# Altium footprint library TerminalBlock_RND.PcbLib: 132 footprints (part 3 of 9)
Each footprint in its own frame and in the unit in brackets; x right, y up, seen from the top. Pads: shape width x height; smd on the part's side, far side on the other; paste and mask are expansions set on the pad; w line width, h text height; cw(c..) or ccw(c..) is an arc to the next point about the centre after c.
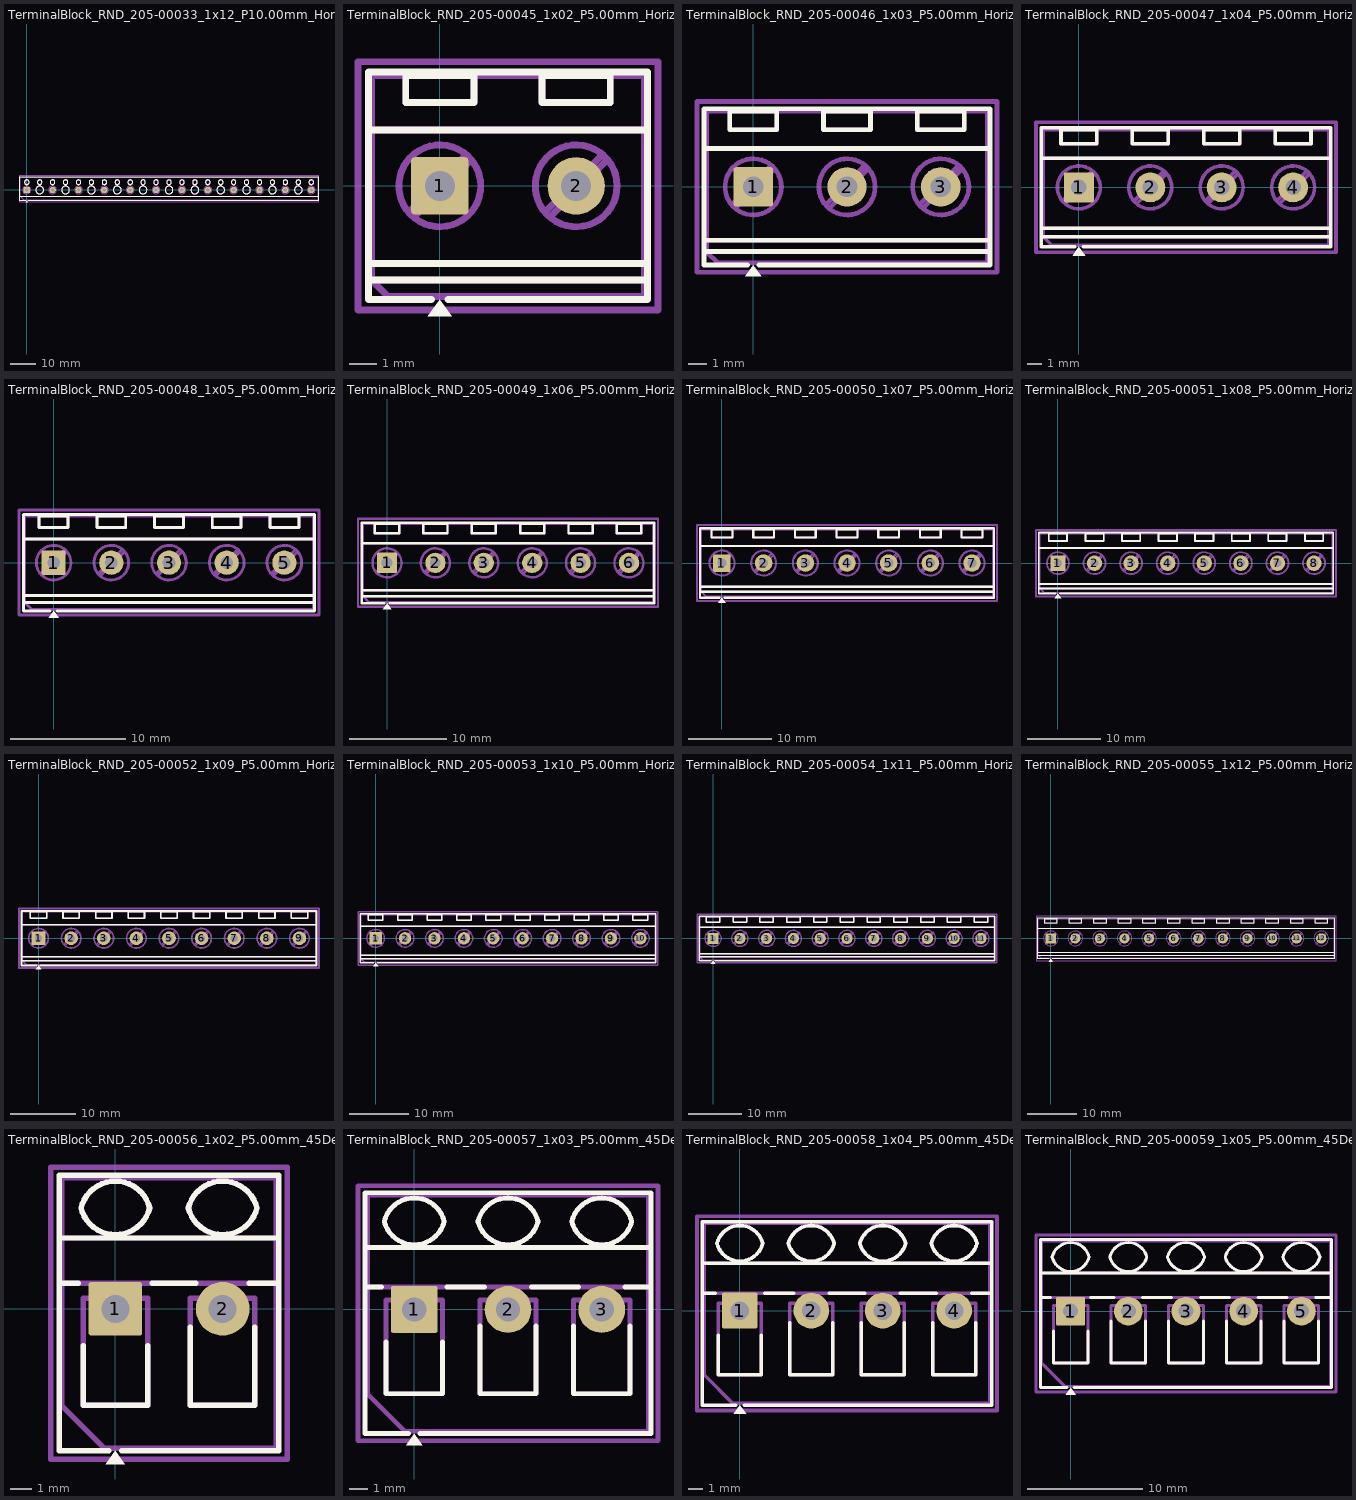
[diagram p2: the footprints below, top view; thin cyan lines are the x and y axes]

## TerminalBlock_RND_205-00033_1x12_P10.00mm_Horizontal [mm]
pads (12):
  rrect10% 2.5x2.5 hole 1.3: 1(0,0)
  round 2.5 hole 1.3: 2(10,0) 3(20,0) 4(30,0) 5(40,0) 6(50,0) 7(60,0) 8(70,0) 9(80,0) 10(90,0) 11(100,0) 12(110,0)
F.SilkS:
  circle w0.254: c0,3 r0.9
  circle w0.254: c5,3 r0.9
  circle w0.254: c5,0 r1.5
  circle w0.254: c10,3 r0.9
  circle w0.254: c15,3 r0.9
  circle w0.254: c15,0 r1.5
  circle w0.254: c20,3 r0.9
  circle w0.254: c25,3 r0.9
  circle w0.254: c25,0 r1.5
  circle w0.254: c30,3 r0.9
  circle w0.254: c35,3 r0.9
  circle w0.254: c35,0 r1.5
  circle w0.254: c40,3 r0.9
  circle w0.254: c45,3 r0.9
  circle w0.254: c45,0 r1.5
  circle w0.254: c50,3 r0.9
  circle w0.254: c55,3 r0.9
  circle w0.254: c55,0 r1.5
  circle w0.254: c60,3 r0.9
  circle w0.254: c65,3 r0.9
  circle w0.254: c65,0 r1.5
  circle w0.254: c70,3 r0.9
  circle w0.254: c75,3 r0.9
  circle w0.254: c75,0 r1.5
  circle w0.254: c80,3 r0.9
  circle w0.254: c85,3 r0.9
  circle w0.254: c85,0 r1.5
  circle w0.254: c90,3 r0.9
  circle w0.254: c95,3 r0.9
  circle w0.254: c95,0 r1.5
  circle w0.254: c100,3 r0.9
  circle w0.254: c105,3 r0.9
  circle w0.254: c105,0 r1.5
  circle w0.254: c110,3 r0.9
  region: 0.44,-4.73 -0.44,-4.73 0,-4.12
  lines w0.254: -2.62,-2.5 112.62,-2.5 ; -0.3,-4.12 -2.62,-4.12 -2.62,5.12 112.62,5.12 112.62,-4.12 0.3,-4.12
F.Fab:
  circle w0.254: c0,3 r0.9
  circle w0.254: c0,0 r1.5
  circle w0.254: c5,3 r0.9
  circle w0.254: c5,0 r1.5
  circle w0.254: c10,3 r0.9
  circle w0.254: c10,0 r1.5
  circle w0.254: c15,3 r0.9
  circle w0.254: c15,0 r1.5
  circle w0.254: c20,3 r0.9
  circle w0.254: c20,0 r1.5
  circle w0.254: c25,3 r0.9
  circle w0.254: c25,0 r1.5
  circle w0.254: c30,3 r0.9
  circle w0.254: c30,0 r1.5
  circle w0.254: c35,3 r0.9
  circle w0.254: c35,0 r1.5
  circle w0.254: c40,3 r0.9
  circle w0.254: c40,0 r1.5
  circle w0.254: c45,3 r0.9
  circle w0.254: c45,0 r1.5
  circle w0.254: c50,3 r0.9
  circle w0.254: c50,0 r1.5
  circle w0.254: c55,3 r0.9
  circle w0.254: c55,0 r1.5
  circle w0.254: c60,3 r0.9
  circle w0.254: c60,0 r1.5
  circle w0.254: c65,3 r0.9
  circle w0.254: c65,0 r1.5
  circle w0.254: c70,3 r0.9
  circle w0.254: c70,0 r1.5
  circle w0.254: c75,3 r0.9
  circle w0.254: c75,0 r1.5
  circle w0.254: c80,3 r0.9
  circle w0.254: c80,0 r1.5
  circle w0.254: c85,3 r0.9
  circle w0.254: c85,0 r1.5
  circle w0.254: c90,3 r0.9
  circle w0.254: c90,0 r1.5
  circle w0.254: c95,3 r0.9
  circle w0.254: c95,0 r1.5
  circle w0.254: c100,3 r0.9
  circle w0.254: c100,0 r1.5
  circle w0.254: c105,3 r0.9
  circle w0.254: c105,0 r1.5
  circle w0.254: c110,3 r0.9
  circle w0.254: c110,0 r1.5
  lines w0.254: -1.138,-0.955 0.955,1.138 ; -0.955,-1.138 1.138,0.955 ; 8.862,-0.955 10.955,1.138 ; 9.045,-1.138 11.138,0.955 ; 18.862,-0.955 20.955,1.138 ; 19.045,-1.138 21.138,0.955 ; 28.862,-0.955 30.955,1.138 ; 29.045,-1.138 31.138,0.955 ; 38.862,-0.955 40.955,1.138 ; 39.045,-1.138 41.138,0.955 ; 48.862,-0.955 50.955,1.138 ; 49.045,-1.138 51.138,0.955 ; 58.862,-0.955 60.955,1.138 ; 59.045,-1.138 61.138,0.955 ; 68.862,-0.955 70.955,1.138 ; 69.045,-1.138 71.138,0.955 ; 78.862,-0.955 80.955,1.138 ; 79.045,-1.138 81.138,0.955 ; 88.862,-0.955 90.955,1.138 ; 89.045,-1.138 91.138,0.955 ; 98.862,-0.955 100.955,1.138 ; 99.045,-1.138 101.138,0.955 ; 108.862,-0.955 110.955,1.138 ; 109.045,-1.138 111.138,0.955 ; 112.5,-2.5 -2.5,-2.5 ; -2.5,-2.5 -2.5,5 112.5,5 112.5,-4 -1,-4 -2.5,-2.5
  text "'.Designator'" at 50.953,-4.14 h1
F.CrtYd:
  lines w0.254: -3,-4.5 -3,5.5 113,5.5 113,-4.5 -3,-4.5

## TerminalBlock_RND_205-00045_1x02_P5.00mm_Horizontal [mm]
pads (2):
  rrect12% 2.1x2.1 hole 1.1: 1(0,0)
  round 2.1 hole 1.1: 2(5,0)
F.SilkS:
  region: 0.44,-4.78 -0.44,-4.78 0,-4.17
  lines w0.254: -2.62,-3.45 7.62,-3.45 ; -2.62,-2.85 7.62,-2.85 ; -2.62,2.05 7.62,2.05 ; -0.3,-4.17 -2.62,-4.17 -2.62,4.17 7.62,4.17 7.62,-4.17 0.3,-4.17 ; -1.25,3.05 -1.25,4.05 1.25,4.05 1.25,3.05 -1.25,3.05 ; 3.75,3.05 3.75,4.05 6.25,4.05 6.25,3.05 3.75,3.05
F.Fab:
  circle w0.254: c0,0 r1.5
  circle w0.254: c5,0 r1.5
  lines w0.254: -2.5,-2.85 7.5,-2.85 ; -2.5,2.05 7.5,2.05 ; -1.138,-0.955 0.955,1.138 ; -0.955,-1.138 1.138,0.955 ; 3.862,-0.955 5.955,1.138 ; 4.045,-1.138 6.138,0.955 ; 7.5,-3.45 -2.5,-3.45 ; -2.5,-3.45 -2.5,4.05 7.5,4.05 7.5,-4.05 -1.9,-4.05 -2.5,-3.45 ; -1.25,3.05 -1.25,4.05 1.25,4.05 1.25,3.05 -1.25,3.05 ; 3.75,3.05 3.75,4.05 6.25,4.05 6.25,3.05 3.75,3.05
  text "'.Designator'" at -1.547,4.33 h1
F.CrtYd:
  lines w0.254: -3,-4.55 -3,4.55 8,4.55 8,-4.55 -3,-4.55

## TerminalBlock_RND_205-00046_1x03_P5.00mm_Horizontal [mm]
pads (3):
  rrect12% 2.1x2.1 hole 1.1: 1(0,0)
  round 2.1 hole 1.1: 2(5,0) 3(10,0)
F.SilkS:
  region: 0.44,-4.78 -0.44,-4.78 0,-4.17
  lines w0.254: -2.62,-3.45 12.62,-3.45 ; -2.62,-2.85 12.62,-2.85 ; -2.62,2.05 12.62,2.05 ; -0.3,-4.17 -2.62,-4.17 -2.62,4.17 12.62,4.17 12.62,-4.17 0.3,-4.17 ; -1.25,3.05 -1.25,4.05 1.25,4.05 1.25,3.05 -1.25,3.05 ; 3.75,3.05 3.75,4.05 6.25,4.05 6.25,3.05 3.75,3.05 ; 8.75,3.05 8.75,4.05 11.25,4.05 11.25,3.05 8.75,3.05
F.Fab:
  circle w0.254: c0,0 r1.5
  circle w0.254: c5,0 r1.5
  circle w0.254: c10,0 r1.5
  lines w0.254: -2.5,-2.85 12.5,-2.85 ; -2.5,2.05 12.5,2.05 ; -1.138,-0.955 0.955,1.138 ; -0.955,-1.138 1.138,0.955 ; 3.862,-0.955 5.955,1.138 ; 4.045,-1.138 6.138,0.955 ; 8.862,-0.955 10.955,1.138 ; 9.045,-1.138 11.138,0.955 ; 12.5,-3.45 -2.5,-3.45 ; -2.5,-3.45 -2.5,4.05 12.5,4.05 12.5,-4.05 -1.9,-4.05 -2.5,-3.45 ; -1.25,3.05 -1.25,4.05 1.25,4.05 1.25,3.05 -1.25,3.05 ; 3.75,3.05 3.75,4.05 6.25,4.05 6.25,3.05 3.75,3.05 ; 8.75,3.05 8.75,4.05 11.25,4.05 11.25,3.05 8.75,3.05
  text "'.Designator'" at 0.953,4.33 h1
F.CrtYd:
  lines w0.254: -3,-4.55 -3,4.55 13,4.55 13,-4.55 -3,-4.55

## TerminalBlock_RND_205-00047_1x04_P5.00mm_Horizontal [mm]
pads (4):
  rrect12% 2.1x2.1 hole 1.1: 1(0,0)
  round 2.1 hole 1.1: 2(5,0) 3(10,0) 4(15,0)
F.SilkS:
  region: 0.44,-4.78 -0.44,-4.78 0,-4.17
  lines w0.254: -2.62,-3.45 17.62,-3.45 ; -2.62,-2.85 17.62,-2.85 ; -2.62,2.05 17.62,2.05 ; -0.3,-4.17 -2.62,-4.17 -2.62,4.17 17.62,4.17 17.62,-4.17 0.3,-4.17 ; -1.25,3.05 -1.25,4.05 1.25,4.05 1.25,3.05 -1.25,3.05 ; 3.75,3.05 3.75,4.05 6.25,4.05 6.25,3.05 3.75,3.05 ; 8.75,3.05 8.75,4.05 11.25,4.05 11.25,3.05 8.75,3.05 ; 13.75,3.05 13.75,4.05 16.25,4.05 16.25,3.05 13.75,3.05
F.Fab:
  circle w0.254: c0,0 r1.5
  circle w0.254: c5,0 r1.5
  circle w0.254: c10,0 r1.5
  circle w0.254: c15,0 r1.5
  lines w0.254: -2.5,-2.85 17.5,-2.85 ; -2.5,2.05 17.5,2.05 ; -1.138,-0.955 0.955,1.138 ; -0.955,-1.138 1.138,0.955 ; 3.862,-0.955 5.955,1.138 ; 4.045,-1.138 6.138,0.955 ; 8.862,-0.955 10.955,1.138 ; 9.045,-1.138 11.138,0.955 ; 13.862,-0.955 15.955,1.138 ; 14.045,-1.138 16.138,0.955 ; 17.5,-3.45 -2.5,-3.45 ; -2.5,-3.45 -2.5,4.05 17.5,4.05 17.5,-4.05 -1.9,-4.05 -2.5,-3.45 ; -1.25,3.05 -1.25,4.05 1.25,4.05 1.25,3.05 -1.25,3.05 ; 3.75,3.05 3.75,4.05 6.25,4.05 6.25,3.05 3.75,3.05 ; 8.75,3.05 8.75,4.05 11.25,4.05 11.25,3.05 8.75,3.05 ; 13.75,3.05 13.75,4.05 16.25,4.05 16.25,3.05 13.75,3.05
  text "'.Designator'" at 3.453,4.33 h1
F.CrtYd:
  lines w0.254: -3,-4.55 -3,4.55 18,4.55 18,-4.55 -3,-4.55

## TerminalBlock_RND_205-00048_1x05_P5.00mm_Horizontal [mm]
pads (5):
  rrect12% 2.1x2.1 hole 1.1: 1(0,0)
  round 2.1 hole 1.1: 2(5,0) 3(10,0) 4(15,0) 5(20,0)
F.SilkS:
  region: 0.44,-4.78 -0.44,-4.78 0,-4.17
  lines w0.254: -2.62,-3.45 22.62,-3.45 ; -2.62,-2.85 22.62,-2.85 ; -2.62,2.05 22.62,2.05 ; -0.3,-4.17 -2.62,-4.17 -2.62,4.17 22.62,4.17 22.62,-4.17 0.3,-4.17 ; -1.25,3.05 -1.25,4.05 1.25,4.05 1.25,3.05 -1.25,3.05 ; 3.75,3.05 3.75,4.05 6.25,4.05 6.25,3.05 3.75,3.05 ; 8.75,3.05 8.75,4.05 11.25,4.05 11.25,3.05 8.75,3.05 ; 13.75,3.05 13.75,4.05 16.25,4.05 16.25,3.05 13.75,3.05 ; 18.75,3.05 18.75,4.05 21.25,4.05 21.25,3.05 18.75,3.05
F.Fab:
  circle w0.254: c0,0 r1.5
  circle w0.254: c5,0 r1.5
  circle w0.254: c10,0 r1.5
  circle w0.254: c15,0 r1.5
  circle w0.254: c20,0 r1.5
  lines w0.254: -2.5,-2.85 22.5,-2.85 ; -2.5,2.05 22.5,2.05 ; -1.138,-0.955 0.955,1.138 ; -0.955,-1.138 1.138,0.955 ; 3.862,-0.955 5.955,1.138 ; 4.045,-1.138 6.138,0.955 ; 8.862,-0.955 10.955,1.138 ; 9.045,-1.138 11.138,0.955 ; 13.862,-0.955 15.955,1.138 ; 14.045,-1.138 16.138,0.955 ; 18.862,-0.955 20.955,1.138 ; 19.045,-1.138 21.138,0.955 ; 22.5,-3.45 -2.5,-3.45 ; -2.5,-3.45 -2.5,4.05 22.5,4.05 22.5,-4.05 -1.9,-4.05 -2.5,-3.45 ; -1.25,3.05 -1.25,4.05 1.25,4.05 1.25,3.05 -1.25,3.05 ; 3.75,3.05 3.75,4.05 6.25,4.05 6.25,3.05 3.75,3.05 ; 8.75,3.05 8.75,4.05 11.25,4.05 11.25,3.05 8.75,3.05 ; 13.75,3.05 13.75,4.05 16.25,4.05 16.25,3.05 13.75,3.05 ; 18.75,3.05 18.75,4.05 21.25,4.05 21.25,3.05 18.75,3.05
  text "'.Designator'" at 5.953,4.33 h1
F.CrtYd:
  lines w0.254: -3,-4.55 -3,4.55 23,4.55 23,-4.55 -3,-4.55

## TerminalBlock_RND_205-00049_1x06_P5.00mm_Horizontal [mm]
pads (6):
  rrect12% 2.1x2.1 hole 1.1: 1(0,0)
  round 2.1 hole 1.1: 2(5,0) 3(10,0) 4(15,0) 5(20,0) 6(25,0)
F.SilkS:
  region: 0.44,-4.78 -0.44,-4.78 0,-4.17
  lines w0.254: -2.62,-3.45 27.62,-3.45 ; -2.62,-2.85 27.62,-2.85 ; -2.62,2.05 27.62,2.05 ; -0.3,-4.17 -2.62,-4.17 -2.62,4.17 27.62,4.17 27.62,-4.17 0.3,-4.17 ; -1.25,3.05 -1.25,4.05 1.25,4.05 1.25,3.05 -1.25,3.05 ; 3.75,3.05 3.75,4.05 6.25,4.05 6.25,3.05 3.75,3.05 ; 8.75,3.05 8.75,4.05 11.25,4.05 11.25,3.05 8.75,3.05 ; 13.75,3.05 13.75,4.05 16.25,4.05 16.25,3.05 13.75,3.05 ; 18.75,3.05 18.75,4.05 21.25,4.05 21.25,3.05 18.75,3.05 ; 23.75,3.05 23.75,4.05 26.25,4.05 26.25,3.05 23.75,3.05
F.Fab:
  circle w0.254: c0,0 r1.5
  circle w0.254: c5,0 r1.5
  circle w0.254: c10,0 r1.5
  circle w0.254: c15,0 r1.5
  circle w0.254: c20,0 r1.5
  circle w0.254: c25,0 r1.5
  lines w0.254: -2.5,-2.85 27.5,-2.85 ; -2.5,2.05 27.5,2.05 ; -1.138,-0.955 0.955,1.138 ; -0.955,-1.138 1.138,0.955 ; 3.862,-0.955 5.955,1.138 ; 4.045,-1.138 6.138,0.955 ; 8.862,-0.955 10.955,1.138 ; 9.045,-1.138 11.138,0.955 ; 13.862,-0.955 15.955,1.138 ; 14.045,-1.138 16.138,0.955 ; 18.862,-0.955 20.955,1.138 ; 19.045,-1.138 21.138,0.955 ; 23.862,-0.955 25.955,1.138 ; 24.045,-1.138 26.138,0.955 ; 27.5,-3.45 -2.5,-3.45 ; -2.5,-3.45 -2.5,4.05 27.5,4.05 27.5,-4.05 -1.9,-4.05 -2.5,-3.45 ; -1.25,3.05 -1.25,4.05 1.25,4.05 1.25,3.05 -1.25,3.05 ; 3.75,3.05 3.75,4.05 6.25,4.05 6.25,3.05 3.75,3.05 ; 8.75,3.05 8.75,4.05 11.25,4.05 11.25,3.05 8.75,3.05 ; 13.75,3.05 13.75,4.05 16.25,4.05 16.25,3.05 13.75,3.05 ; 18.75,3.05 18.75,4.05 21.25,4.05 21.25,3.05 18.75,3.05 ; 23.75,3.05 23.75,4.05 26.25,4.05 26.25,3.05 23.75,3.05
  text "'.Designator'" at 8.453,4.33 h1
F.CrtYd:
  lines w0.254: -3,-4.55 -3,4.55 28,4.55 28,-4.55 -3,-4.55

## TerminalBlock_RND_205-00050_1x07_P5.00mm_Horizontal [mm]
pads (7):
  rrect12% 2.1x2.1 hole 1.1: 1(0,0)
  round 2.1 hole 1.1: 2(5,0) 3(10,0) 4(15,0) 5(20,0) 6(25,0) 7(30,0)
F.SilkS:
  region: 0.44,-4.78 -0.44,-4.78 0,-4.17
  lines w0.254: -2.62,-3.45 32.62,-3.45 ; -2.62,-2.85 32.62,-2.85 ; -2.62,2.05 32.62,2.05 ; -0.3,-4.17 -2.62,-4.17 -2.62,4.17 32.62,4.17 32.62,-4.17 0.3,-4.17 ; -1.25,3.05 -1.25,4.05 1.25,4.05 1.25,3.05 -1.25,3.05 ; 3.75,3.05 3.75,4.05 6.25,4.05 6.25,3.05 3.75,3.05 ; 8.75,3.05 8.75,4.05 11.25,4.05 11.25,3.05 8.75,3.05 ; 13.75,3.05 13.75,4.05 16.25,4.05 16.25,3.05 13.75,3.05 ; 18.75,3.05 18.75,4.05 21.25,4.05 21.25,3.05 18.75,3.05 ; 23.75,3.05 23.75,4.05 26.25,4.05 26.25,3.05 23.75,3.05 ; 28.75,3.05 28.75,4.05 31.25,4.05 31.25,3.05 28.75,3.05
F.Fab:
  circle w0.254: c0,0 r1.5
  circle w0.254: c5,0 r1.5
  circle w0.254: c10,0 r1.5
  circle w0.254: c15,0 r1.5
  circle w0.254: c20,0 r1.5
  circle w0.254: c25,0 r1.5
  circle w0.254: c30,0 r1.5
  lines w0.254: -2.5,-2.85 32.5,-2.85 ; -2.5,2.05 32.5,2.05 ; -1.138,-0.955 0.955,1.138 ; -0.955,-1.138 1.138,0.955 ; 3.862,-0.955 5.955,1.138 ; 4.045,-1.138 6.138,0.955 ; 8.862,-0.955 10.955,1.138 ; 9.045,-1.138 11.138,0.955 ; 13.862,-0.955 15.955,1.138 ; 14.045,-1.138 16.138,0.955 ; 18.862,-0.955 20.955,1.138 ; 19.045,-1.138 21.138,0.955 ; 23.862,-0.955 25.955,1.138 ; 24.045,-1.138 26.138,0.955 ; 28.862,-0.955 30.955,1.138 ; 29.045,-1.138 31.138,0.955 ; 32.5,-3.45 -2.5,-3.45 ; -2.5,-3.45 -2.5,4.05 32.5,4.05 32.5,-4.05 -1.9,-4.05 -2.5,-3.45 ; -1.25,3.05 -1.25,4.05 1.25,4.05 1.25,3.05 -1.25,3.05 ; 3.75,3.05 3.75,4.05 6.25,4.05 6.25,3.05 3.75,3.05 ; 8.75,3.05 8.75,4.05 11.25,4.05 11.25,3.05 8.75,3.05 ; 13.75,3.05 13.75,4.05 16.25,4.05 16.25,3.05 13.75,3.05 ; 18.75,3.05 18.75,4.05 21.25,4.05 21.25,3.05 18.75,3.05 ; 23.75,3.05 23.75,4.05 26.25,4.05 26.25,3.05 23.75,3.05 ; 28.75,3.05 28.75,4.05 31.25,4.05 31.25,3.05 28.75,3.05
  text "'.Designator'" at 10.953,4.33 h1
F.CrtYd:
  lines w0.254: -3,-4.55 -3,4.55 33,4.55 33,-4.55 -3,-4.55

## TerminalBlock_RND_205-00051_1x08_P5.00mm_Horizontal [mm]
pads (8):
  rrect12% 2.1x2.1 hole 1.1: 1(0,0)
  round 2.1 hole 1.1: 2(5,0) 3(10,0) 4(15,0) 5(20,0) 6(25,0) 7(30,0) 8(35,0)
F.SilkS:
  region: 0.44,-4.78 -0.44,-4.78 0,-4.17
  lines w0.254: -2.62,-3.45 37.62,-3.45 ; -2.62,-2.85 37.62,-2.85 ; -2.62,2.05 37.62,2.05 ; -0.3,-4.17 -2.62,-4.17 -2.62,4.17 37.62,4.17 37.62,-4.17 0.3,-4.17 ; -1.25,3.05 -1.25,4.05 1.25,4.05 1.25,3.05 -1.25,3.05 ; 3.75,3.05 3.75,4.05 6.25,4.05 6.25,3.05 3.75,3.05 ; 8.75,3.05 8.75,4.05 11.25,4.05 11.25,3.05 8.75,3.05 ; 13.75,3.05 13.75,4.05 16.25,4.05 16.25,3.05 13.75,3.05 ; 18.75,3.05 18.75,4.05 21.25,4.05 21.25,3.05 18.75,3.05 ; 23.75,3.05 23.75,4.05 26.25,4.05 26.25,3.05 23.75,3.05 ; 28.75,3.05 28.75,4.05 31.25,4.05 31.25,3.05 28.75,3.05 ; 33.75,3.05 33.75,4.05 36.25,4.05 36.25,3.05 33.75,3.05
F.Fab:
  circle w0.254: c0,0 r1.5
  circle w0.254: c5,0 r1.5
  circle w0.254: c10,0 r1.5
  circle w0.254: c15,0 r1.5
  circle w0.254: c20,0 r1.5
  circle w0.254: c25,0 r1.5
  circle w0.254: c30,0 r1.5
  circle w0.254: c35,0 r1.5
  lines w0.254: -2.5,-2.85 37.5,-2.85 ; -2.5,2.05 37.5,2.05 ; -1.138,-0.955 0.955,1.138 ; -0.955,-1.138 1.138,0.955 ; 3.862,-0.955 5.955,1.138 ; 4.045,-1.138 6.138,0.955 ; 8.862,-0.955 10.955,1.138 ; 9.045,-1.138 11.138,0.955 ; 13.862,-0.955 15.955,1.138 ; 14.045,-1.138 16.138,0.955 ; 18.862,-0.955 20.955,1.138 ; 19.045,-1.138 21.138,0.955 ; 23.862,-0.955 25.955,1.138 ; 24.045,-1.138 26.138,0.955 ; 28.862,-0.955 30.955,1.138 ; 29.045,-1.138 31.138,0.955 ; 33.862,-0.955 35.955,1.138 ; 34.045,-1.138 36.138,0.955 ; 37.5,-3.45 -2.5,-3.45 ; -2.5,-3.45 -2.5,4.05 37.5,4.05 37.5,-4.05 -1.9,-4.05 -2.5,-3.45 ; -1.25,3.05 -1.25,4.05 1.25,4.05 1.25,3.05 -1.25,3.05 ; 3.75,3.05 3.75,4.05 6.25,4.05 6.25,3.05 3.75,3.05 ; 8.75,3.05 8.75,4.05 11.25,4.05 11.25,3.05 8.75,3.05 ; 13.75,3.05 13.75,4.05 16.25,4.05 16.25,3.05 13.75,3.05 ; 18.75,3.05 18.75,4.05 21.25,4.05 21.25,3.05 18.75,3.05 ; 23.75,3.05 23.75,4.05 26.25,4.05 26.25,3.05 23.75,3.05 ; 28.75,3.05 28.75,4.05 31.25,4.05 31.25,3.05 28.75,3.05 ; 33.75,3.05 33.75,4.05 36.25,4.05 36.25,3.05 33.75,3.05
  text "'.Designator'" at 13.453,4.33 h1
F.CrtYd:
  lines w0.254: -3,-4.55 -3,4.55 38,4.55 38,-4.55 -3,-4.55

## TerminalBlock_RND_205-00052_1x09_P5.00mm_Horizontal [mm]
pads (9):
  rrect12% 2.1x2.1 hole 1.1: 1(0,0)
  round 2.1 hole 1.1: 2(5,0) 3(10,0) 4(15,0) 5(20,0) 6(25,0) 7(30,0) 8(35,0) 9(40,0)
F.SilkS:
  region: 0.44,-4.78 -0.44,-4.78 0,-4.17
  lines w0.254: -2.62,-3.45 42.62,-3.45 ; -2.62,-2.85 42.62,-2.85 ; -2.62,2.05 42.62,2.05 ; -0.3,-4.17 -2.62,-4.17 -2.62,4.17 42.62,4.17 42.62,-4.17 0.3,-4.17 ; -1.25,3.05 -1.25,4.05 1.25,4.05 1.25,3.05 -1.25,3.05 ; 3.75,3.05 3.75,4.05 6.25,4.05 6.25,3.05 3.75,3.05 ; 8.75,3.05 8.75,4.05 11.25,4.05 11.25,3.05 8.75,3.05 ; 13.75,3.05 13.75,4.05 16.25,4.05 16.25,3.05 13.75,3.05 ; 18.75,3.05 18.75,4.05 21.25,4.05 21.25,3.05 18.75,3.05 ; 23.75,3.05 23.75,4.05 26.25,4.05 26.25,3.05 23.75,3.05 ; 28.75,3.05 28.75,4.05 31.25,4.05 31.25,3.05 28.75,3.05 ; 33.75,3.05 33.75,4.05 36.25,4.05 36.25,3.05 33.75,3.05 ; 38.75,3.05 38.75,4.05 41.25,4.05 41.25,3.05 38.75,3.05
F.Fab:
  circle w0.254: c0,0 r1.5
  circle w0.254: c5,0 r1.5
  circle w0.254: c10,0 r1.5
  circle w0.254: c15,0 r1.5
  circle w0.254: c20,0 r1.5
  circle w0.254: c25,0 r1.5
  circle w0.254: c30,0 r1.5
  circle w0.254: c35,0 r1.5
  circle w0.254: c40,0 r1.5
  lines w0.254: -2.5,-2.85 42.5,-2.85 ; -2.5,2.05 42.5,2.05 ; -1.138,-0.955 0.955,1.138 ; -0.955,-1.138 1.138,0.955 ; 3.862,-0.955 5.955,1.138 ; 4.045,-1.138 6.138,0.955 ; 8.862,-0.955 10.955,1.138 ; 9.045,-1.138 11.138,0.955 ; 13.862,-0.955 15.955,1.138 ; 14.045,-1.138 16.138,0.955 ; 18.862,-0.955 20.955,1.138 ; 19.045,-1.138 21.138,0.955 ; 23.862,-0.955 25.955,1.138 ; 24.045,-1.138 26.138,0.955 ; 28.862,-0.955 30.955,1.138 ; 29.045,-1.138 31.138,0.955 ; 33.862,-0.955 35.955,1.138 ; 34.045,-1.138 36.138,0.955 ; 38.862,-0.955 40.955,1.138 ; 39.045,-1.138 41.138,0.955 ; 42.5,-3.45 -2.5,-3.45 ; -2.5,-3.45 -2.5,4.05 42.5,4.05 42.5,-4.05 -1.9,-4.05 -2.5,-3.45 ; -1.25,3.05 -1.25,4.05 1.25,4.05 1.25,3.05 -1.25,3.05 ; 3.75,3.05 3.75,4.05 6.25,4.05 6.25,3.05 3.75,3.05 ; 8.75,3.05 8.75,4.05 11.25,4.05 11.25,3.05 8.75,3.05 ; 13.75,3.05 13.75,4.05 16.25,4.05 16.25,3.05 13.75,3.05 ; 18.75,3.05 18.75,4.05 21.25,4.05 21.25,3.05 18.75,3.05 ; 23.75,3.05 23.75,4.05 26.25,4.05 26.25,3.05 23.75,3.05 ; 28.75,3.05 28.75,4.05 31.25,4.05 31.25,3.05 28.75,3.05 ; 33.75,3.05 33.75,4.05 36.25,4.05 36.25,3.05 33.75,3.05 ; 38.75,3.05 38.75,4.05 41.25,4.05 41.25,3.05 38.75,3.05
  text "'.Designator'" at 15.953,4.33 h1
F.CrtYd:
  lines w0.254: -3,-4.55 -3,4.55 43,4.55 43,-4.55 -3,-4.55

## TerminalBlock_RND_205-00053_1x10_P5.00mm_Horizontal [mm]
pads (10):
  rrect12% 2.1x2.1 hole 1.1: 1(0,0)
  round 2.1 hole 1.1: 2(5,0) 3(10,0) 4(15,0) 5(20,0) 6(25,0) 7(30,0) 8(35,0) 9(40,0) 10(45,0)
F.SilkS:
  region: 0.44,-4.78 -0.44,-4.78 0,-4.17
  lines w0.254: -2.62,-3.45 47.62,-3.45 ; -2.62,-2.85 47.62,-2.85 ; -2.62,2.05 47.62,2.05 ; -0.3,-4.17 -2.62,-4.17 -2.62,4.17 47.62,4.17 47.62,-4.17 0.3,-4.17 ; -1.25,3.05 -1.25,4.05 1.25,4.05 1.25,3.05 -1.25,3.05 ; 3.75,3.05 3.75,4.05 6.25,4.05 6.25,3.05 3.75,3.05 ; 8.75,3.05 8.75,4.05 11.25,4.05 11.25,3.05 8.75,3.05 ; 13.75,3.05 13.75,4.05 16.25,4.05 16.25,3.05 13.75,3.05 ; 18.75,3.05 18.75,4.05 21.25,4.05 21.25,3.05 18.75,3.05 ; 23.75,3.05 23.75,4.05 26.25,4.05 26.25,3.05 23.75,3.05 ; 28.75,3.05 28.75,4.05 31.25,4.05 31.25,3.05 28.75,3.05 ; 33.75,3.05 33.75,4.05 36.25,4.05 36.25,3.05 33.75,3.05 ; 38.75,3.05 38.75,4.05 41.25,4.05 41.25,3.05 38.75,3.05 ; 43.75,3.05 43.75,4.05 46.25,4.05 46.25,3.05 43.75,3.05
F.Fab:
  circle w0.254: c0,0 r1.5
  circle w0.254: c5,0 r1.5
  circle w0.254: c10,0 r1.5
  circle w0.254: c15,0 r1.5
  circle w0.254: c20,0 r1.5
  circle w0.254: c25,0 r1.5
  circle w0.254: c30,0 r1.5
  circle w0.254: c35,0 r1.5
  circle w0.254: c40,0 r1.5
  circle w0.254: c45,0 r1.5
  lines w0.254: -2.5,-2.85 47.5,-2.85 ; -2.5,2.05 47.5,2.05 ; -1.138,-0.955 0.955,1.138 ; -0.955,-1.138 1.138,0.955 ; 3.862,-0.955 5.955,1.138 ; 4.045,-1.138 6.138,0.955 ; 8.862,-0.955 10.955,1.138 ; 9.045,-1.138 11.138,0.955 ; 13.862,-0.955 15.955,1.138 ; 14.045,-1.138 16.138,0.955 ; 18.862,-0.955 20.955,1.138 ; 19.045,-1.138 21.138,0.955 ; 23.862,-0.955 25.955,1.138 ; 24.045,-1.138 26.138,0.955 ; 28.862,-0.955 30.955,1.138 ; 29.045,-1.138 31.138,0.955 ; 33.862,-0.955 35.955,1.138 ; 34.045,-1.138 36.138,0.955 ; 38.862,-0.955 40.955,1.138 ; 39.045,-1.138 41.138,0.955 ; 43.862,-0.955 45.955,1.138 ; 44.045,-1.138 46.138,0.955 ; 47.5,-3.45 -2.5,-3.45 ; -2.5,-3.45 -2.5,4.05 47.5,4.05 47.5,-4.05 -1.9,-4.05 -2.5,-3.45 ; -1.25,3.05 -1.25,4.05 1.25,4.05 1.25,3.05 -1.25,3.05 ; 3.75,3.05 3.75,4.05 6.25,4.05 6.25,3.05 3.75,3.05 ; 8.75,3.05 8.75,4.05 11.25,4.05 11.25,3.05 8.75,3.05 ; 13.75,3.05 13.75,4.05 16.25,4.05 16.25,3.05 13.75,3.05 ; 18.75,3.05 18.75,4.05 21.25,4.05 21.25,3.05 18.75,3.05 ; 23.75,3.05 23.75,4.05 26.25,4.05 26.25,3.05 23.75,3.05 ; 28.75,3.05 28.75,4.05 31.25,4.05 31.25,3.05 28.75,3.05 ; 33.75,3.05 33.75,4.05 36.25,4.05 36.25,3.05 33.75,3.05 ; 38.75,3.05 38.75,4.05 41.25,4.05 41.25,3.05 38.75,3.05 ; 43.75,3.05 43.75,4.05 46.25,4.05 46.25,3.05 43.75,3.05
  text "'.Designator'" at 18.453,4.33 h1
F.CrtYd:
  lines w0.254: -3,-4.55 -3,4.55 48,4.55 48,-4.55 -3,-4.55

## TerminalBlock_RND_205-00054_1x11_P5.00mm_Horizontal [mm]
pads (11):
  rrect12% 2.1x2.1 hole 1.1: 1(0,0)
  round 2.1 hole 1.1: 2(5,0) 3(10,0) 4(15,0) 5(20,0) 6(25,0) 7(30,0) 8(35,0) 9(40,0) 10(45,0) 11(50,0)
F.SilkS:
  region: 0.44,-4.78 -0.44,-4.78 0,-4.17
  lines w0.254: -2.62,-3.45 52.62,-3.45 ; -2.62,-2.85 52.62,-2.85 ; -2.62,2.05 52.62,2.05 ; -0.3,-4.17 -2.62,-4.17 -2.62,4.17 52.62,4.17 52.62,-4.17 0.3,-4.17 ; -1.25,3.05 -1.25,4.05 1.25,4.05 1.25,3.05 -1.25,3.05 ; 3.75,3.05 3.75,4.05 6.25,4.05 6.25,3.05 3.75,3.05 ; 8.75,3.05 8.75,4.05 11.25,4.05 11.25,3.05 8.75,3.05 ; 13.75,3.05 13.75,4.05 16.25,4.05 16.25,3.05 13.75,3.05 ; 18.75,3.05 18.75,4.05 21.25,4.05 21.25,3.05 18.75,3.05 ; 23.75,3.05 23.75,4.05 26.25,4.05 26.25,3.05 23.75,3.05 ; 28.75,3.05 28.75,4.05 31.25,4.05 31.25,3.05 28.75,3.05 ; 33.75,3.05 33.75,4.05 36.25,4.05 36.25,3.05 33.75,3.05 ; 38.75,3.05 38.75,4.05 41.25,4.05 41.25,3.05 38.75,3.05 ; 43.75,3.05 43.75,4.05 46.25,4.05 46.25,3.05 43.75,3.05 ; 48.75,3.05 48.75,4.05 51.25,4.05 51.25,3.05 48.75,3.05
F.Fab:
  circle w0.254: c0,0 r1.5
  circle w0.254: c5,0 r1.5
  circle w0.254: c10,0 r1.5
  circle w0.254: c15,0 r1.5
  circle w0.254: c20,0 r1.5
  circle w0.254: c25,0 r1.5
  circle w0.254: c30,0 r1.5
  circle w0.254: c35,0 r1.5
  circle w0.254: c40,0 r1.5
  circle w0.254: c45,0 r1.5
  circle w0.254: c50,0 r1.5
  lines w0.254: -2.5,-2.85 52.5,-2.85 ; -2.5,2.05 52.5,2.05 ; -1.138,-0.955 0.955,1.138 ; -0.955,-1.138 1.138,0.955 ; 3.862,-0.955 5.955,1.138 ; 4.045,-1.138 6.138,0.955 ; 8.862,-0.955 10.955,1.138 ; 9.045,-1.138 11.138,0.955 ; 13.862,-0.955 15.955,1.138 ; 14.045,-1.138 16.138,0.955 ; 18.862,-0.955 20.955,1.138 ; 19.045,-1.138 21.138,0.955 ; 23.862,-0.955 25.955,1.138 ; 24.045,-1.138 26.138,0.955 ; 28.862,-0.955 30.955,1.138 ; 29.045,-1.138 31.138,0.955 ; 33.862,-0.955 35.955,1.138 ; 34.045,-1.138 36.138,0.955 ; 38.862,-0.955 40.955,1.138 ; 39.045,-1.138 41.138,0.955 ; 43.862,-0.955 45.955,1.138 ; 44.045,-1.138 46.138,0.955 ; 48.862,-0.955 50.955,1.138 ; 49.045,-1.138 51.138,0.955 ; 52.5,-3.45 -2.5,-3.45 ; -2.5,-3.45 -2.5,4.05 52.5,4.05 52.5,-4.05 -1.9,-4.05 -2.5,-3.45 ; -1.25,3.05 -1.25,4.05 1.25,4.05 1.25,3.05 -1.25,3.05 ; 3.75,3.05 3.75,4.05 6.25,4.05 6.25,3.05 3.75,3.05 ; 8.75,3.05 8.75,4.05 11.25,4.05 11.25,3.05 8.75,3.05 ; 13.75,3.05 13.75,4.05 16.25,4.05 16.25,3.05 13.75,3.05 ; 18.75,3.05 18.75,4.05 21.25,4.05 21.25,3.05 18.75,3.05 ; 23.75,3.05 23.75,4.05 26.25,4.05 26.25,3.05 23.75,3.05 ; 28.75,3.05 28.75,4.05 31.25,4.05 31.25,3.05 28.75,3.05 ; 33.75,3.05 33.75,4.05 36.25,4.05 36.25,3.05 33.75,3.05 ; 38.75,3.05 38.75,4.05 41.25,4.05 41.25,3.05 38.75,3.05 ; 43.75,3.05 43.75,4.05 46.25,4.05 46.25,3.05 43.75,3.05 ; 48.75,3.05 48.75,4.05 51.25,4.05 51.25,3.05 48.75,3.05
  text "'.Designator'" at 20.953,4.33 h1
F.CrtYd:
  lines w0.254: -3,-4.55 -3,4.55 53,4.55 53,-4.55 -3,-4.55

## TerminalBlock_RND_205-00055_1x12_P5.00mm_Horizontal [mm]
pads (12):
  rrect12% 2.1x2.1 hole 1.1: 1(0,0)
  round 2.1 hole 1.1: 2(5,0) 3(10,0) 4(15,0) 5(20,0) 6(25,0) 7(30,0) 8(35,0) 9(40,0) 10(45,0) 11(50,0) 12(55,0)
F.SilkS:
  region: 0.44,-4.78 -0.44,-4.78 0,-4.17
  lines w0.254: -2.62,-3.45 57.62,-3.45 ; -2.62,-2.85 57.62,-2.85 ; -2.62,2.05 57.62,2.05 ; -0.3,-4.17 -2.62,-4.17 -2.62,4.17 57.62,4.17 57.62,-4.17 0.3,-4.17 ; -1.25,3.05 -1.25,4.05 1.25,4.05 1.25,3.05 -1.25,3.05 ; 3.75,3.05 3.75,4.05 6.25,4.05 6.25,3.05 3.75,3.05 ; 8.75,3.05 8.75,4.05 11.25,4.05 11.25,3.05 8.75,3.05 ; 13.75,3.05 13.75,4.05 16.25,4.05 16.25,3.05 13.75,3.05 ; 18.75,3.05 18.75,4.05 21.25,4.05 21.25,3.05 18.75,3.05 ; 23.75,3.05 23.75,4.05 26.25,4.05 26.25,3.05 23.75,3.05 ; 28.75,3.05 28.75,4.05 31.25,4.05 31.25,3.05 28.75,3.05 ; 33.75,3.05 33.75,4.05 36.25,4.05 36.25,3.05 33.75,3.05 ; 38.75,3.05 38.75,4.05 41.25,4.05 41.25,3.05 38.75,3.05 ; 43.75,3.05 43.75,4.05 46.25,4.05 46.25,3.05 43.75,3.05 ; 48.75,3.05 48.75,4.05 51.25,4.05 51.25,3.05 48.75,3.05 ; 53.75,3.05 53.75,4.05 56.25,4.05 56.25,3.05 53.75,3.05
F.Fab:
  circle w0.254: c0,0 r1.5
  circle w0.254: c5,0 r1.5
  circle w0.254: c10,0 r1.5
  circle w0.254: c15,0 r1.5
  circle w0.254: c20,0 r1.5
  circle w0.254: c25,0 r1.5
  circle w0.254: c30,0 r1.5
  circle w0.254: c35,0 r1.5
  circle w0.254: c40,0 r1.5
  circle w0.254: c45,0 r1.5
  circle w0.254: c50,0 r1.5
  circle w0.254: c55,0 r1.5
  lines w0.254: -2.5,-2.85 57.5,-2.85 ; -2.5,2.05 57.5,2.05 ; -1.138,-0.955 0.955,1.138 ; -0.955,-1.138 1.138,0.955 ; 3.862,-0.955 5.955,1.138 ; 4.045,-1.138 6.138,0.955 ; 8.862,-0.955 10.955,1.138 ; 9.045,-1.138 11.138,0.955 ; 13.862,-0.955 15.955,1.138 ; 14.045,-1.138 16.138,0.955 ; 18.862,-0.955 20.955,1.138 ; 19.045,-1.138 21.138,0.955 ; 23.862,-0.955 25.955,1.138 ; 24.045,-1.138 26.138,0.955 ; 28.862,-0.955 30.955,1.138 ; 29.045,-1.138 31.138,0.955 ; 33.862,-0.955 35.955,1.138 ; 34.045,-1.138 36.138,0.955 ; 38.862,-0.955 40.955,1.138 ; 39.045,-1.138 41.138,0.955 ; 43.862,-0.955 45.955,1.138 ; 44.045,-1.138 46.138,0.955 ; 48.862,-0.955 50.955,1.138 ; 49.045,-1.138 51.138,0.955 ; 53.862,-0.955 55.955,1.138 ; 54.045,-1.138 56.138,0.955 ; 57.5,-3.45 -2.5,-3.45 ; -2.5,-3.45 -2.5,4.05 57.5,4.05 57.5,-4.05 -1.9,-4.05 -2.5,-3.45 ; -1.25,3.05 -1.25,4.05 1.25,4.05 1.25,3.05 -1.25,3.05 ; 3.75,3.05 3.75,4.05 6.25,4.05 6.25,3.05 3.75,3.05 ; 8.75,3.05 8.75,4.05 11.25,4.05 11.25,3.05 8.75,3.05 ; 13.75,3.05 13.75,4.05 16.25,4.05 16.25,3.05 13.75,3.05 ; 18.75,3.05 18.75,4.05 21.25,4.05 21.25,3.05 18.75,3.05 ; 23.75,3.05 23.75,4.05 26.25,4.05 26.25,3.05 23.75,3.05 ; 28.75,3.05 28.75,4.05 31.25,4.05 31.25,3.05 28.75,3.05 ; 33.75,3.05 33.75,4.05 36.25,4.05 36.25,3.05 33.75,3.05 ; 38.75,3.05 38.75,4.05 41.25,4.05 41.25,3.05 38.75,3.05 ; 43.75,3.05 43.75,4.05 46.25,4.05 46.25,3.05 43.75,3.05 ; 48.75,3.05 48.75,4.05 51.25,4.05 51.25,3.05 48.75,3.05 ; 53.75,3.05 53.75,4.05 56.25,4.05 56.25,3.05 53.75,3.05
  text "'.Designator'" at 23.453,4.33 h1
F.CrtYd:
  lines w0.254: -3,-4.55 -3,4.55 58,4.55 58,-4.55 -3,-4.55

## TerminalBlock_RND_205-00056_1x02_P5.00mm_45Degree [mm]
pads (2):
  rrect10% 2.5x2.5 hole 1.3: 1(0,0)
  round 2.5 hole 1.3: 2(5,0)
F.SilkS:
  region: 0.44,-7.23 -0.44,-7.23 0,-6.62
  lines w0.254: -2.62,1.2 -1.73,1.2 ; -2.62,3.3 7.62,3.3 ; -1.5,-1.73 -1.5,-4.5 1.5,-4.5 1.5,-1.73 ; -0.3,-6.62 -2.62,-6.62 -2.62,6.22 7.62,6.22 7.62,-6.62 0.3,-6.62 ; 1.73,1.2 3.754,1.2 ; 3.5,-0.862 3.5,-4.5 6.5,-4.5 6.5,-0.862 ; 6.246,1.2 7.62,1.2 ; -1.6,4.7 cw(c0,4.301) 1.6,4.7 cw(c0,5.099) -1.6,4.7 ; 3.4,4.7 cw(c5,4.301) 6.6,4.7 cw(c5,5.099) 3.4,4.7
F.Fab:
  lines w0.254: -2.5,1.2 7.5,1.2 ; -2.5,3.3 7.5,3.3 ; -2.5,-4.5 -2.5,6.1 7.5,6.1 7.5,-6.5 -0.5,-6.5 -2.5,-4.5 ; -1.6,4.7 cw(c0,4.301) 1.6,4.7 cw(c0,5.099) -1.6,4.7 ; -1.5,-4.5 -1.5,0.5 1.5,0.5 1.5,-4.5 -1.5,-4.5 ; 3.4,4.7 cw(c5,4.301) 6.6,4.7 cw(c5,5.099) 3.4,4.7 ; 3.5,-4.5 3.5,0.5 6.5,0.5 6.5,-4.5 3.5,-4.5
  text "'.Designator'" at -1.547,-0.04 h1
F.CrtYd:
  lines w0.254: -3,-7 -3,6.6 8,6.6 8,-7 -3,-7

## TerminalBlock_RND_205-00057_1x03_P5.00mm_45Degree [mm]
pads (3):
  rrect10% 2.5x2.5 hole 1.3: 1(0,0)
  round 2.5 hole 1.3: 2(5,0) 3(10,0)
F.SilkS:
  region: 0.44,-7.23 -0.44,-7.23 0,-6.62
  lines w0.254: -2.62,1.2 -1.73,1.2 ; -2.62,3.3 12.62,3.3 ; -1.5,-1.73 -1.5,-4.5 1.5,-4.5 1.5,-1.73 ; -0.3,-6.62 -2.62,-6.62 -2.62,6.22 12.62,6.22 12.62,-6.62 0.3,-6.62 ; 1.73,1.2 3.754,1.2 ; 3.5,-0.862 3.5,-4.5 6.5,-4.5 6.5,-0.862 ; 6.246,1.2 8.754,1.2 ; 8.5,-0.862 8.5,-4.5 11.5,-4.5 11.5,-0.862 ; 11.246,1.2 12.62,1.2 ; -1.6,4.7 cw(c0,4.301) 1.6,4.7 cw(c0,5.099) -1.6,4.7 ; 3.4,4.7 cw(c5,4.301) 6.6,4.7 cw(c5,5.099) 3.4,4.7 ; 8.4,4.7 cw(c10,4.301) 11.6,4.7 cw(c10,5.099) 8.4,4.7
F.Fab:
  lines w0.254: -2.5,1.2 12.5,1.2 ; -2.5,3.3 12.5,3.3 ; -2.5,-4.5 -2.5,6.1 12.5,6.1 12.5,-6.5 -0.5,-6.5 -2.5,-4.5 ; -1.6,4.7 cw(c0,4.301) 1.6,4.7 cw(c0,5.099) -1.6,4.7 ; -1.5,-4.5 -1.5,0.5 1.5,0.5 1.5,-4.5 -1.5,-4.5 ; 3.4,4.7 cw(c5,4.301) 6.6,4.7 cw(c5,5.099) 3.4,4.7 ; 3.5,-4.5 3.5,0.5 6.5,0.5 6.5,-4.5 3.5,-4.5 ; 8.4,4.7 cw(c10,4.301) 11.6,4.7 cw(c10,5.099) 8.4,4.7 ; 8.5,-4.5 8.5,0.5 11.5,0.5 11.5,-4.5 8.5,-4.5
  text "'.Designator'" at 0.953,-0.04 h1
F.CrtYd:
  lines w0.254: -3,-7 -3,6.6 13,6.6 13,-7 -3,-7

## TerminalBlock_RND_205-00058_1x04_P5.00mm_45Degree [mm]
pads (4):
  rrect10% 2.5x2.5 hole 1.3: 1(0,0)
  round 2.5 hole 1.3: 2(5,0) 3(10,0) 4(15,0)
F.SilkS:
  region: 0.44,-7.23 -0.44,-7.23 0,-6.62
  lines w0.254: -2.62,1.2 -1.73,1.2 ; -2.62,3.3 17.62,3.3 ; -1.5,-1.73 -1.5,-4.5 1.5,-4.5 1.5,-1.73 ; -0.3,-6.62 -2.62,-6.62 -2.62,6.22 17.62,6.22 17.62,-6.62 0.3,-6.62 ; 1.73,1.2 3.754,1.2 ; 3.5,-0.862 3.5,-4.5 6.5,-4.5 6.5,-0.862 ; 6.246,1.2 8.754,1.2 ; 8.5,-0.862 8.5,-4.5 11.5,-4.5 11.5,-0.862 ; 11.246,1.2 13.754,1.2 ; 13.5,-0.862 13.5,-4.5 16.5,-4.5 16.5,-0.862 ; 16.246,1.2 17.62,1.2 ; -1.6,4.7 cw(c0,4.301) 1.6,4.7 cw(c0,5.099) -1.6,4.7 ; 3.4,4.7 cw(c5,4.301) 6.6,4.7 cw(c5,5.099) 3.4,4.7 ; 8.4,4.7 cw(c10,4.301) 11.6,4.7 cw(c10,5.099) 8.4,4.7 ; 13.4,4.7 cw(c15,4.301) 16.6,4.7 cw(c15,5.099) 13.4,4.7
F.Fab:
  lines w0.254: -2.5,1.2 17.5,1.2 ; -2.5,3.3 17.5,3.3 ; -2.5,-4.5 -2.5,6.1 17.5,6.1 17.5,-6.5 -0.5,-6.5 -2.5,-4.5 ; -1.6,4.7 cw(c0,4.301) 1.6,4.7 cw(c0,5.099) -1.6,4.7 ; -1.5,-4.5 -1.5,0.5 1.5,0.5 1.5,-4.5 -1.5,-4.5 ; 3.4,4.7 cw(c5,4.301) 6.6,4.7 cw(c5,5.099) 3.4,4.7 ; 3.5,-4.5 3.5,0.5 6.5,0.5 6.5,-4.5 3.5,-4.5 ; 8.4,4.7 cw(c10,4.301) 11.6,4.7 cw(c10,5.099) 8.4,4.7 ; 8.5,-4.5 8.5,0.5 11.5,0.5 11.5,-4.5 8.5,-4.5 ; 13.4,4.7 cw(c15,4.301) 16.6,4.7 cw(c15,5.099) 13.4,4.7 ; 13.5,-4.5 13.5,0.5 16.5,0.5 16.5,-4.5 13.5,-4.5
  text "'.Designator'" at 3.453,-0.04 h1
F.CrtYd:
  lines w0.254: -3,-7 -3,6.6 18,6.6 18,-7 -3,-7

## TerminalBlock_RND_205-00059_1x05_P5.00mm_45Degree [mm]
pads (5):
  rrect10% 2.5x2.5 hole 1.3: 1(0,0)
  round 2.5 hole 1.3: 2(5,0) 3(10,0) 4(15,0) 5(20,0)
F.SilkS:
  region: 0.44,-7.23 -0.44,-7.23 0,-6.62
  lines w0.254: -2.62,1.2 -1.73,1.2 ; -2.62,3.3 22.62,3.3 ; -1.5,-1.73 -1.5,-4.5 1.5,-4.5 1.5,-1.73 ; -0.3,-6.62 -2.62,-6.62 -2.62,6.22 22.62,6.22 22.62,-6.62 0.3,-6.62 ; 1.73,1.2 3.754,1.2 ; 3.5,-0.862 3.5,-4.5 6.5,-4.5 6.5,-0.862 ; 6.246,1.2 8.754,1.2 ; 8.5,-0.862 8.5,-4.5 11.5,-4.5 11.5,-0.862 ; 11.246,1.2 13.754,1.2 ; 13.5,-0.862 13.5,-4.5 16.5,-4.5 16.5,-0.862 ; 16.246,1.2 18.754,1.2 ; 18.5,-0.862 18.5,-4.5 21.5,-4.5 21.5,-0.862 ; 21.246,1.2 22.62,1.2 ; -1.6,4.7 cw(c0,4.301) 1.6,4.7 cw(c0,5.099) -1.6,4.7 ; 3.4,4.7 cw(c5,4.301) 6.6,4.7 cw(c5,5.099) 3.4,4.7 ; 8.4,4.7 cw(c10,4.301) 11.6,4.7 cw(c10,5.099) 8.4,4.7 ; 13.4,4.7 cw(c15,4.301) 16.6,4.7 cw(c15,5.099) 13.4,4.7 ; 18.4,4.7 cw(c20,4.301) 21.6,4.7 cw(c20,5.099) 18.4,4.7
F.Fab:
  lines w0.254: -2.5,1.2 22.5,1.2 ; -2.5,3.3 22.5,3.3 ; -2.5,-4.5 -2.5,6.1 22.5,6.1 22.5,-6.5 -0.5,-6.5 -2.5,-4.5 ; -1.6,4.7 cw(c0,4.301) 1.6,4.7 cw(c0,5.099) -1.6,4.7 ; -1.5,-4.5 -1.5,0.5 1.5,0.5 1.5,-4.5 -1.5,-4.5 ; 3.4,4.7 cw(c5,4.301) 6.6,4.7 cw(c5,5.099) 3.4,4.7 ; 3.5,-4.5 3.5,0.5 6.5,0.5 6.5,-4.5 3.5,-4.5 ; 8.4,4.7 cw(c10,4.301) 11.6,4.7 cw(c10,5.099) 8.4,4.7 ; 8.5,-4.5 8.5,0.5 11.5,0.5 11.5,-4.5 8.5,-4.5 ; 13.4,4.7 cw(c15,4.301) 16.6,4.7 cw(c15,5.099) 13.4,4.7 ; 13.5,-4.5 13.5,0.5 16.5,0.5 16.5,-4.5 13.5,-4.5 ; 18.4,4.7 cw(c20,4.301) 21.6,4.7 cw(c20,5.099) 18.4,4.7 ; 18.5,-4.5 18.5,0.5 21.5,0.5 21.5,-4.5 18.5,-4.5
  text "'.Designator'" at 5.953,-0.04 h1
F.CrtYd:
  lines w0.254: -3,-7 -3,6.6 23,6.6 23,-7 -3,-7